# Altium schematic symbol library eeprom_memories.SchLib: 9 symbols
Pins are listed as number, name and electrical type; pins without a type are passive.

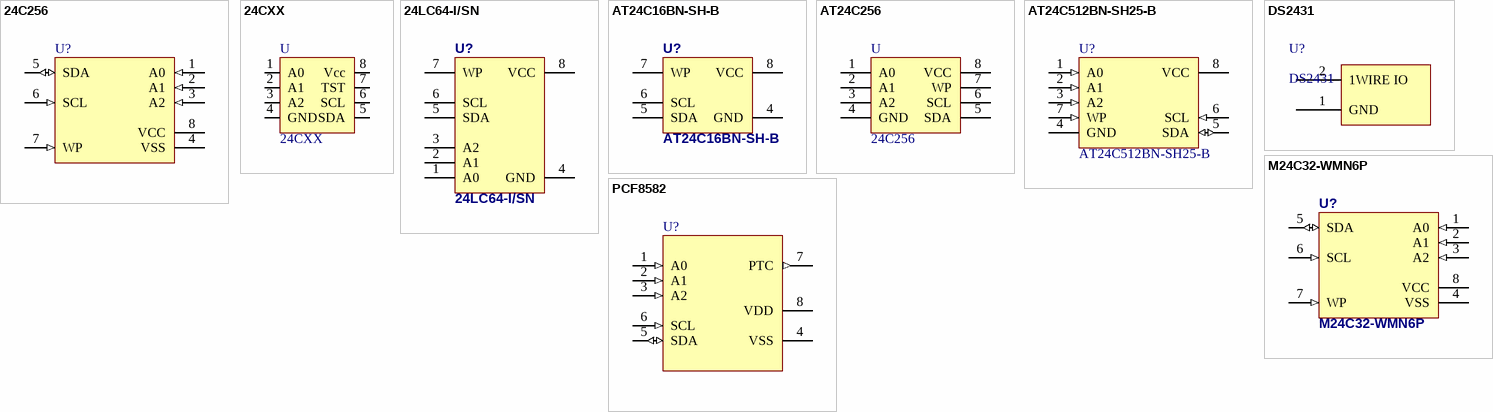
[diagram p0: symbols 24C256 to PCF8582]

## 24C256
designator U?
256K I2C CMOS Serial EEPROM; Published: 12-May-2006; PackageReference: SO8
footprint SO8 (Small Outline; 8 Leads; Body Width 3.7 mm; Pitch 1.27 mm)
pins: 1 A0 (in) "Address Input 0", 2 A1 (in) "Address Input 1", 3 A2 (in) "Address Input 2", 4 VSS (power) "Ground", 5 SDA (io) "Serial Data", 6 SCL (in) "Serial Clock Input", 7 WP (in) "Write Protect Input", 8 VCC (power) "Power Supply"

## 24CXX
designator U
footprint SO8 (Footprint not found)
pins: 1 A0, 2 A1, 3 A2, 4 GND, 5 SDA, 6 SCL, 7 TST, 8 Vcc

## 24LC64-I/SN
designator U?
EEPROM 8192 x 8bit (64k)
footprint SO8 (Footprint not found)
pins: 1 A0, 2 A1, 3 A2, 4 GND (power), 5 SDA, 6 SCL, 7 WP, 8 VCC

## AT24C16BN-SH-B
designator U?
EEPROM 2048 x 8bit (16k); Supplier 1: TME; Supplier Part Number 1: 24AA16-I/SN
footprint SO8 (Footprint not found)
pins: 1 NC hidden, 2 NC hidden, 3 NC hidden, 4 GND (power), 5 SDA, 6 SCL, 7 WP, 8 VCC

## AT24C256
designator U, comment 24C256
128/256K I2C™ CMOS Serial EEPROM
footprint SO8 (Footprint not found)
pins: 1 A0, 2 A1, 3 A2, 4 GND (power), 5 SDA, 6 SCL, 7 WP, 8 VCC

## AT24C512BN-SH25-B
designator U?
Two-wire Serial EEPROM 512kb (64k x 8); Published: 04-Jul-2008; PackageReference: 8S1; Publisher: mmakow; PackageDescription: 8-Pin Small Outline Integrated Circuit 1.27 mm Pitch; ComponentLink1Description: Manufacturer Link; ComponentLink1URL: http://www.atmel.com; ComponentLink2Description: Datasheet; ComponentLink2URL: http://www.atmel.com/dyn/resources/prod_documents/doc5297.pdf
footprint SOIC (PowerPad)
pins: 1 A0 (in), 2 A1 (in), 3 A2 (in), 4 GND (power), 5 SDA (io), 6 SCL (in), 7 WP (in), 8 VCC (power)

## DS2431
designator U?
1024-Bit, 1-Wire EEPROM
footprint TSOC6 (TSOC; 6 pin; 17.8 mm2)
pins: 1 GND, 2 1WIRE IO, 3 N/C hidden, 4 N/C hidden, 5 N/C hidden, 6 N/C hidden

## M24C32-WMN6P
designator U?
32k I2C CMOS Serial EEPROM; Published: 12-May-2006; PackageReference: SO8
footprint SO8 (Small Outline; 8 Leads; Body Width 3.7 mm; Pitch 1.27 mm)
pins: 1 A0 (in) "Address Input 0", 2 A1 (in) "Address Input 1", 3 A2 (in) "Address Input 2", 4 VSS (power) "Ground", 5 SDA (io) "Serial Data", 6 SCL (in) "Serial Clock Input", 7 WP (in) "Write Protect Input", 8 VCC (power) "Power Supply"

## PCF8582
designator U?
256 x 8-bit CMOS EEPROM with I2C-bus interface; Published: 19-Feb-2006; PackageReference: SO8
footprint SO8 (Small Outline; 8 Leads; Body Width 3.7 mm; Pitch 1.27 mm)
pins: 1 A0 (in), 2 A1 (in), 3 A2 (in), 4 VSS (power), 5 SDA (io), 6 SCL (in), 7 PTC (out), 8 VDD (power)